# Altium footprint library 2440PCBV5.PcbLib: 73 footprints (part 4 of 5)
Each footprint in its own frame and in the unit in brackets; x right, y up, seen from the top. Pads: shape width x height; smd on the part's side, far side on the other; paste and mask are expansions set on the pad; w line width, h text height; cw(c..) or ccw(c..) is an arc to the next point about the centre after c.
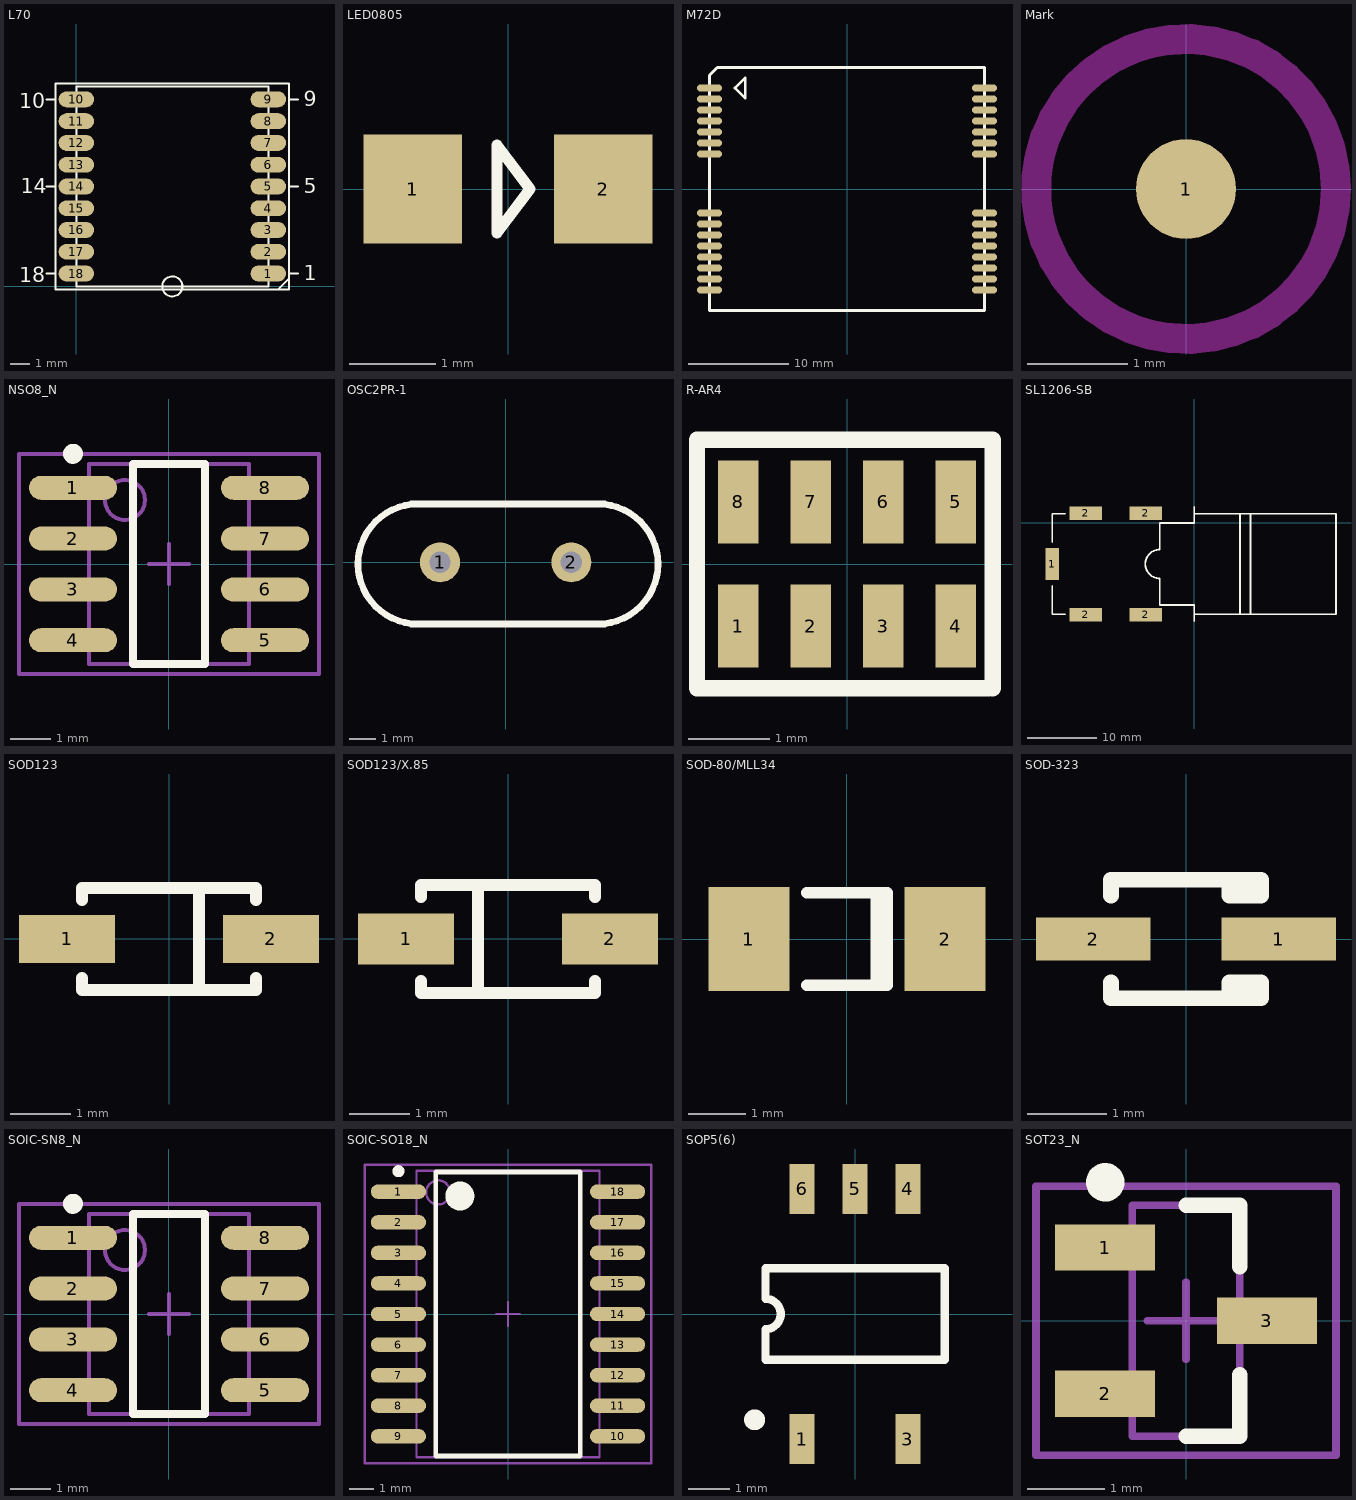
[diagram p3: the footprints below, top view; thin cyan lines are the x and y axes]

## L70 [mm]
pads (18):
  oval 1.8x0.8 smd: 1(9.7,0.65) 2(9.7,1.75) 3(9.7,2.85) 4(9.7,3.95) 5(9.7,5.05) 6(9.7,6.15) 7(9.7,7.25) 8(9.7,8.35) 9(9.7,9.45) 10(0,9.45) 11(0,8.35) 12(0,7.25) 13(0,6.15) 14(0,5.05) 15(0,3.95) 16(0,2.85) 17(0,1.75) 18(0,0.65)
Top Overlay:
  circle w0.102: c4.85,0 r0.508
  lines w0.102: -1.5,0.65 -1.05,0.65 ; -1.5,5.05 -1.05,5.05 ; -1.5,9.45 -1.05,9.45 ; 10.2,-0.15 10.75,0.4 ; 10.75,0.65 11.2,0.65 ; 10.75,5.05 11.2,5.05 ; 10.75,9.45 11.2,9.45 ; -1.05,-0.15 -1.05,10.25 10.75,10.25 10.75,-0.15 -1.05,-0.15 ; 0,0 0,10.1 9.7,10.1 9.7,0 0,0
  text "18" at -2.9,0.2 h0.76
  text "14" at -2.8,4.7 h0.76
  text "10" at -2.9,9 h0.76
  text "9" at 11.5,9.1 h0.76
  text "5" at 11.5,4.7 h0.76
  text "1" at 11.5,0.3 h0.76

## LED0805 [mm]
pads (2):
  rect 1.143x1.27 smd: 1(-1.105,0) 2(1.105,0)
Top Overlay:
  lines w0.127: -0.127,-0.508 -0.127,0.508 0.254,0 -0.127,-0.508
3D body: height 0.85, standoff 0.01, extent -1.031,-0.459 1.031,0.447

## M72D [mm]
pads (30):
  oval 2.5x0.7 smd: 1(-13.75,10.1) 2(-13.75,9) 3(-13.75,7.9) 4(-13.75,6.8) 5(-13.75,5.7) 6(-13.75,4.6) 7(-13.75,3.5) 8(-13.75,-2.4) 9(-13.75,-3.5) 10(-13.75,-4.6) 11(-13.75,-5.7) 12(-13.75,-6.8) 13(-13.75,-7.9) 14(-13.75,-9) 15(-13.75,-10.1) 16(13.75,-10.1) 17(13.75,-9) 18(13.75,-7.9) 19(13.75,-6.8) 20(13.75,-5.7) 21(13.75,-4.6) 22(13.75,-3.5) 23(13.75,-2.4) 24(13.75,3.5) 25(13.75,4.6) 26(13.75,5.7) 27(13.75,6.8) 28(13.75,7.9) 29(13.75,9) 30(13.75,10.1)
Top Overlay:
  lines w0.254: -11.21,10.1 -10.194,9.084 -10.194,11.116 -11.21,10.1
  lines w0.3: -13.75,-12.15 13.75,-12.15 13.75,12.15 -12.843,12.15 -12.97,12.15 -13.75,11.37 -13.75,-12.15

## Mark [mm]
height 0.55
pads (1):
  round 1 smd paste+0 mask+1: 1(0,0)
Top Layer keep-out:
  circle w0.3: c0,0 r1.5

## NSO8_N [mm]
height 1.75
pads (8):
  oval 2.2x0.6 smd: 1(-2.4,1.905) 2(-2.4,0.635) 3(-2.4,-0.635) 4(-2.4,-1.905) 5(2.4,-1.905) 6(2.4,-0.635) 7(2.4,0.635) 8(2.4,1.905)
Top Overlay:
  circle w0.25: c-2.4,2.755 r0.125
  lines w0.2: -0.9,-2.5 -0.9,2.5 0.9,2.5 0.9,-2.5 -0.9,-2.5
Mechanical 13:
  circle w0.1: c-1.1,1.6 r0.5
  lines w0.1: -2,-2.5 -2,2.5 2,2.5 2,-2.5 -2,-2.5
Mechanical 15:
  lines w0.1: -0.5,0 0.5,0 ; 0,-0.5 0,0.5 ; -3.75,-2.75 -3.75,2.75 3.75,2.75 3.75,-2.75 -3.75,-2.75
3D body: height 1.75, standoff 0, extent -2,-2.5 2,2.5

## OSC2PR-1 [mil]
height 118.11
pads (2):
  round 60 hole 32: 1(-98.5,0) 2(98.5,0)
Top Overlay:
  lines w10: -141.5,-92.5 148.5,-92.5 ; -141.5,87.5 148.5,87.5 ; -131.5,-92.5 cw(c-131.5,-2.5) -131.5,87.5 ; 138.5,-92.5 ccw(c138.5,-2.5) 138.5,87.5
3D body: height 137.8, standoff -157.48, extent -220.21,-93.6 226.64,89.47

## R-AR4 [mil]
pads (8):
  rect 19.68x40 smd: 1(-52.5,-30) 2(-17.5,-30) 3(17.5,-30) 4(52.5,-30) 5(52.5,30) 6(17.5,30) 7(-17.5,30) 8(-52.5,30)
Top Overlay:
  lines w7.87: 68.5,-60 -72.5,-60 -72.5,60 70.5,60 70.5,-60
3D body: height 21.65, standoff 0, extent -62.59,-32.74 63.39,30.25

## SL1206-SB [mm]
pads (5):
  rect 2x4.7 smd: 1(-20.6,-5.95)
  rect 4.7x2 smd: 2(-15.75,-13.3) 2(-15.75,1.4) 2(-7.05,-13.3) 2(-7.05,1.4)
Top Overlay:
  lines w0.254: -20.6,-9.125 -20.6,-13.25 -18.761,-13.25 ; -20.6,-2.775 -20.6,1.35 -18.695,1.35 ; -0.006,-13.25 0,-13.244 6.64,-13.244 ; 0,-14.205 0,-11.919 ; 0,-11.9 -5,-11.9 -5,-8.05 cw(c-5,-5.95) -5,-3.85 -5,0 0,0 0,2.305 ; 0,1.35 6.64,1.35 ; 6.64,-13.244 6.64,1.35 ; 6.64,-13.244 8.14,-13.244 ; 6.64,1.35 8.14,1.35 ; 8.14,-13.244 8.14,1.35 ; 8.14,-13.244 20.54,-13.244 20.54,1.35 8.14,1.35

## SOD123 [mm] "SOD-123; 2 Leads; Body 2.7 x 1.6 mm, (LxW)"
height 1.35
pads (2):
  rect 1.6x0.8 smd: 1(-1.7,0) 2(1.7,0)
Top Overlay:
  lines w0.2: -1.45,-0.65 -1.45,-0.85 1.45,-0.85 1.45,-0.65 ; -1.45,0.65 -1.45,0.85 1.45,0.85 1.45,0.65 ; 0.5,-0.85 0.5,0.85

## SOD123/X.85 [mm] "SOD-123; 2 Leads; Body 2.7 x 1.6 mm, (LxW)"
height 1.35
pads (2):
  rect 1.6x0.85 smd: 1(-1.7,0) 2(1.7,0)
Top Overlay:
  lines w0.2: -1.45,-0.7 -1.45,-0.9 1.45,-0.9 1.45,-0.7 ; -1.45,0.7 -1.45,0.9 1.45,0.9 1.45,0.7 ; -0.5,-0.9 -0.5,0.9

## SOD-80/MLL34 [mm]
height 1.7
pads (2):
  rect 1.4x1.8 smd: 1(-1.7,0) 2(1.7,0)
Top Overlay:
  lines w0.2: -0.7,-0.8 0.7,-0.8 0.7,0.8 -0.7,0.8 ; 0.51,-0.8 0.51,0.8
3D body: height 0.77, standoff -0.77, extent -1.662,-0.768 1.691,0.772

## SOD-323 [mm] "SOD-323/SC-76; 2 Leads; Body 1.7 x 1.3 mm, (LxW)"
height 1.1
pads (2):
  rect 1.45x0.55 smd: 1(1.175,0) 2(-1.175,0)
Top Overlay:
  lines w0.2: -0.95,-0.55 -0.95,-0.75 0.95,-0.75 0.95,-0.55 0.55,-0.55 0.55,-0.75 ; -0.95,0.55 -0.95,0.75 0.95,0.75 0.95,0.55 0.55,0.55 0.55,0.75

## SOIC-SN8_N [mm]
height 1.75
pads (8):
  oval 2.2x0.6 smd: 1(-2.4,1.905) 2(-2.4,0.635) 3(-2.4,-0.635) 4(-2.4,-1.905) 5(2.4,-1.905) 6(2.4,-0.635) 7(2.4,0.635) 8(2.4,1.905)
Top Overlay:
  circle w0.25: c-2.4,2.755 r0.125
  lines w0.2: -0.9,-2.5 0.9,-2.5 0.9,2.5 -0.9,2.5 -0.9,-2.5
Mechanical 13:
  circle w0.1: c-1.1,1.6 r0.5
  lines w0.1: -2,-2.5 2,-2.5 2,2.5 -2,2.5 -2,-2.5
Mechanical 15:
  lines w0.1: -0.5,0 0.5,0 ; 0,-0.5 0,0.5 ; -3.75,-2.75 3.75,-2.75 3.75,2.75 -3.75,2.75 -3.75,-2.75
3D body: height 1.7, standoff 0, extent -3,-2.45 3,2.45

## SOIC-SO18_N [mm]
height 2.65
pads (18):
  oval 2.3x0.6 smd: 1(-4.55,5.08) 2(-4.55,3.81) 3(-4.55,2.54) 4(-4.55,1.27) 5(-4.55,0) 6(-4.55,-1.27) 7(-4.55,-2.54) 8(-4.55,-3.81) 9(-4.55,-5.08) 10(4.55,-5.08) 11(4.55,-3.81) 12(4.55,-2.54) 13(4.55,-1.27) 14(4.55,0) 15(4.55,1.27) 16(4.55,2.54) 17(4.55,3.81) 18(4.55,5.08)
Top Overlay:
  circle w0.25: c-4.55,5.93 r0.125
  circle w0.6: c-2,4.9 r0.3
  lines w0.2: -3,-5.9 -3,5.9 3,5.9 3,-5.9 -3,-5.9
Mechanical 13:
  circle w0.1: c-2.9,5.05 r0.5
  lines w0.1: -3.8,-5.95 -3.8,5.95 3.8,5.95 3.8,-5.95 -3.8,-5.95
Mechanical 15:
  lines w0.1: -0.5,0 0.5,0 ; 0,-0.5 0,0.5 ; -5.95,-6.2 -5.95,6.2 5.95,6.2 5.95,-6.2 -5.95,-6.2
3D body: height 2.65, standoff 0, extent -3.8,-5.95 3.8,5.95

## SOP5(6) [mm] "Small Outli"
height 2.4
pads (5):
  rect 0.6x1.2 smd: 1(-1.27,-3) 3(1.27,-3) 4(1.27,3) 5(0,3) 6(-1.27,3)
Top Overlay:
  circle w0.25: c-2.411,-2.54 r0.125
  lines w0.2: -2.15,-1.1 -2.15,-0.367 ccw(c-2.15,0) -2.15,0.367 -2.15,1.1 2.15,1.1 2.15,-1.1 -2.15,-1.1

## SOT23_N [mm] "SOT23, 3-Leads, Body 2.9x1.3mm, Pitch 0.95mm, Lead Span 2.3mm, IPC Medium Density"
height 1.1
pads (3):
  rect 1.3x0.6 smd: 1(-1.05,0.95) 2(-1.05,-0.95) 3(1.05,0)
Top Overlay:
  circle w0.25: c-1.05,1.8 r0.125
  lines w0.2: 0,-1.5 0.7,-1.5 0.7,-0.7 ; 0,1.5 0.7,1.5 0.7,0.7
Mechanical 13:
  lines w0.1: -0.7,-1.5 -0.7,1.5 0.7,1.5 0.7,-1.5 -0.7,-1.5
Mechanical 15:
  lines w0.1: -0.5,0 0.5,0 ; 0,-0.5 0,0.5 ; -1.95,-1.75 -1.95,1.75 1.95,1.75 1.95,-1.75 -1.95,-1.75
3D body: height 1.1, standoff 0, extent -0.7,-1.5 0.7,1.5